# Altium footprint library pcblib_by_wjy.PcbLib: 111 footprints (part 2 of 7)
Each footprint in its own frame and in the unit in brackets; x right, y up, seen from the top. Pads: shape width x height; smd on the part's side, far side on the other; paste and mask are expansions set on the pad; w line width, h text height; cw(c..) or ccw(c..) is an arc to the next point about the centre after c.
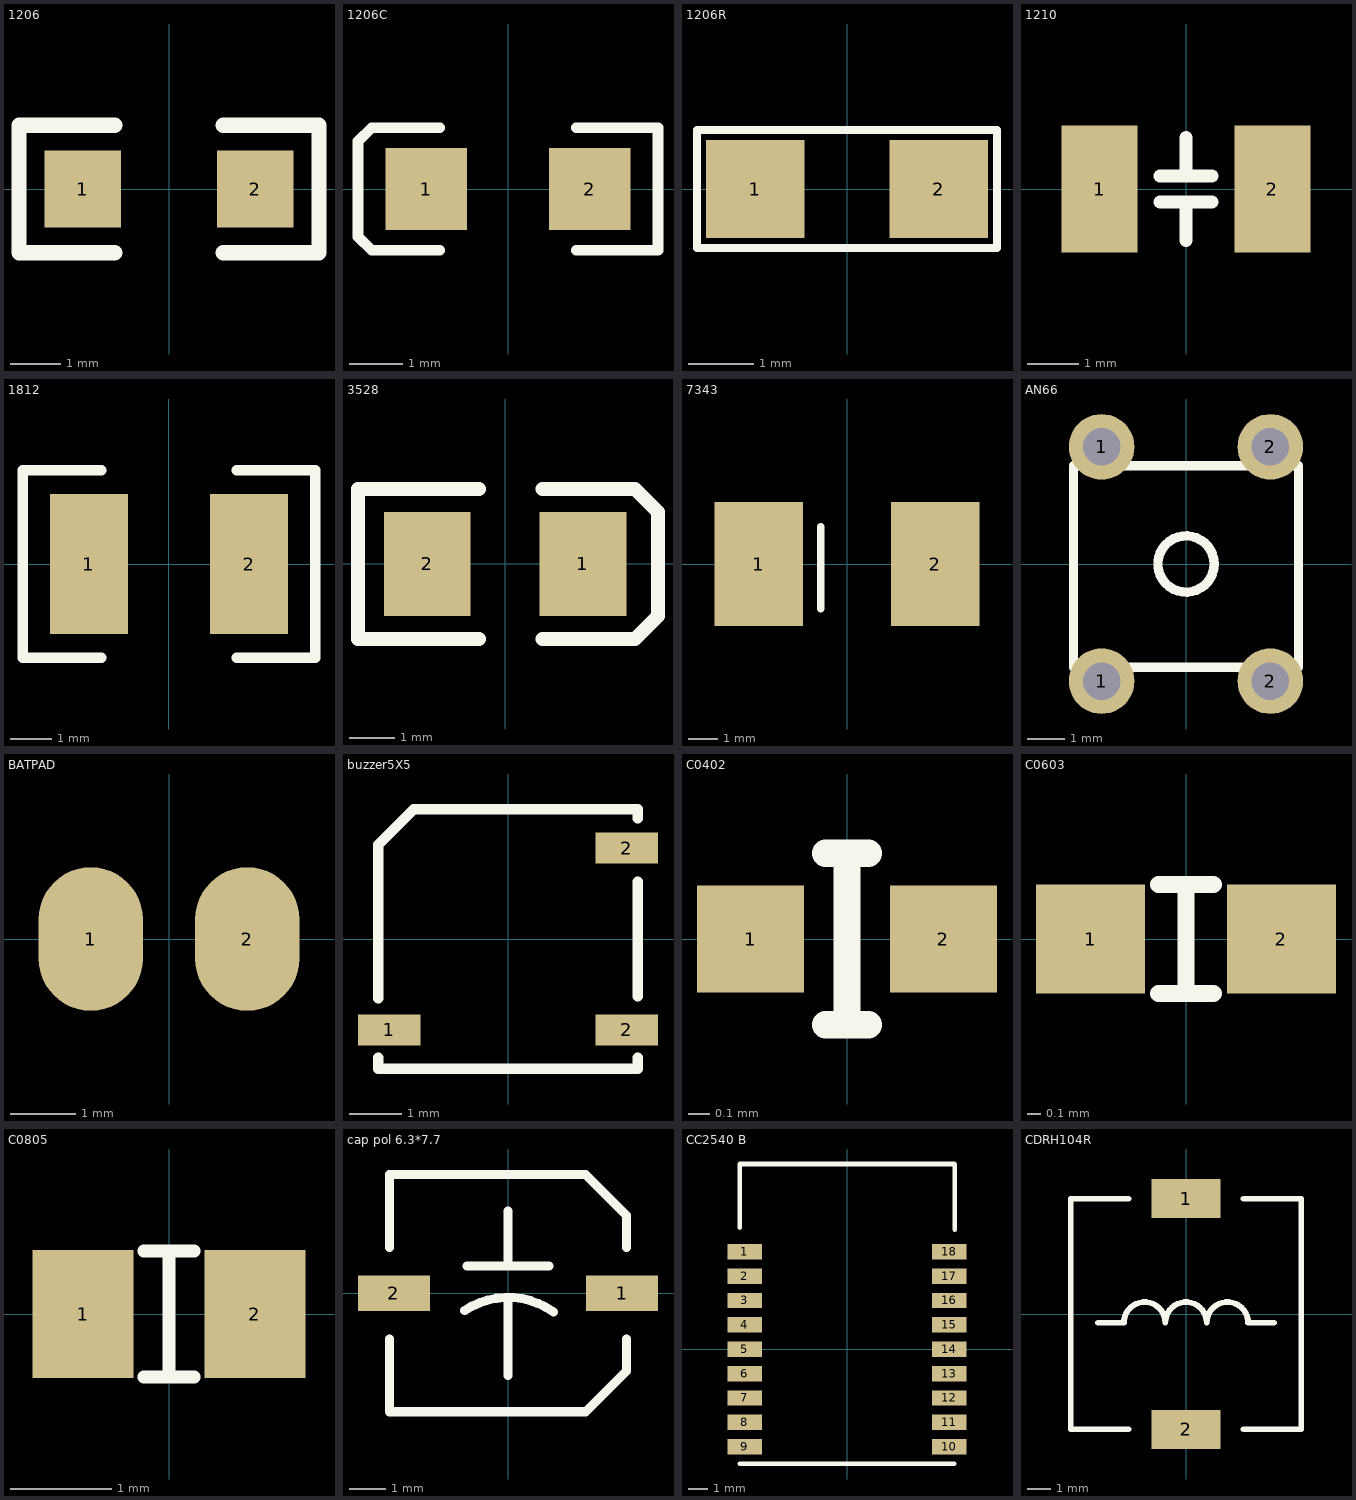
[diagram p1: the footprints below, top view; thin cyan lines are the x and y axes]

## 1206 [mil]
pads (2):
  rect 60x60 smd: 1(-67.5,0) 2(67.5,0)
Top Overlay:
  lines w12: -42.5,-50 -117.5,-50 -117.5,50 -42.5,50 ; 42.5,-50 117.5,-50 117.5,50 42.5,50

## 1206C [mil]
pads (2):
  rect 60x60 smd: 1(-60,0) 2(60,0)
Top Overlay:
  lines w7.87: -50,-45 -100,-45 -110,-35 -110,35 -100,45 -50,45 ; 50,-45 110,-45 110,45 50,45

## 1206R [mm]
pads (2):
  rect 1.5x1.5 smd: 1(-1.397,0) 2(1.397,0)
Top Overlay:
  lines w0.127: -2.286,-0.9 -2.286,0.9 2.286,0.9 2.286,-0.9 -2.286,-0.9
3D body "CAPC3216(1206).STEP": height 0.95, standoff 0, extent -1.716,-0.787 1.484,0.813

## 1210 [mm]
pads (2):
  rect 1.5x2.5 smd: 1(-1.7,0) 2(1.7,0)
Top Overlay:
  lines w0.254: -0.508,-0.254 0.508,-0.254 ; -0.508,0.254 0.508,0.254 ; 0,-1.016 0,-0.254 ; 0,0.254 0,1.016

## 1812 [mm] "Chip Capacitor; Body 4.5 x 3.2 mm (LxW typ)"
height 1.1
pads (2):
  rect 1.9x3.4 smd: 1(-1.95,0) 2(1.95,0)
Top Overlay:
  lines w0.254: -1.651,-2.286 -3.556,-2.286 -3.556,2.286 -1.651,2.286 ; 1.651,-2.286 3.556,-2.286 3.556,2.286 1.651,2.286

## 3528 [mil]
pads (2):
  rect 75x90 smd: 1(67.5,0) 2(-67.5,0)
Top Overlay:
  lines w12: -22.5,-65 -127.5,-65 -127.5,65 -22.5,65 ; 32.5,-65 112.5,-65 132.5,-45 132.5,45 112.5,65 32.5,65

## 7343 [mm]
pads (2):
  rect 3x4.2 smd: 1(-3,0) 2(3,0)
Top Overlay:
  lines w0.254: -0.889,-1.524 -0.889,1.27

## AN66 [mil]
pads (4):
  round 70 hole 40: 1(-90,-125) 1(-90,125) 2(90,-125) 2(90,125)
Top Overlay:
  circle w10: c0,0 r30
  lines w10: -120,-110 -120,105 120,105 120,-110 -120,-110

## BATPAD [mm]
pads (2):
  oval 1.6x2.2 smd: 1(-1.2,0) 2(1.2,0)

## buzzer5X5 [mm]
height 3
pads (3):
  rect 1.2x0.6 smd: 1(-2.286,-1.75) 2(2.286,-1.75) 2(2.286,1.75)
Top Overlay:
  lines w0.2: -2.5,-2.286 -2.5,-2.5 2.5,-2.5 2.5,-2.286 ; -2.5,-1.143 -2.5,1.818 -1.818,2.5 2.5,2.5 2.5,2.326 ; 2.5,-1.1 2.5,1.1

## C0402 [mm] "C0402"
pads (2):
  rect 0.5x0.5 smd: 1(-0.45,0) 2(0.45,0)
Top Overlay:
  lines w0.127: -0.1,-0.4 0.1,-0.4 ; -0.1,0.4 0.1,0.4 ; 0,-0.4 0,0.4
3D body "R0402.STEP": height 0.35, standoff 0, extent -0.5,-0.25 0.5,0.25

## C0603 [mm] "C0603"
pads (2):
  rect 0.8x0.8 smd: 1(-0.7,0) 2(0.7,0)
Top Overlay:
  lines w0.127: -0.2,-0.4 0.2,-0.4 ; -0.2,0.4 0.2,0.4 ; 0,-0.4 0,0.4
3D body "CAPC1608(0603).STEP": height 0.6, standoff 0, extent -0.75,-0.4 0.85,0.4

## C0805 [mm] "C0805"
pads (2):
  rect 1x1.27 smd: 1(-0.85,0) 2(0.85,0)
Top Overlay:
  lines w0.127: -0.25,-0.625 0.25,-0.625 ; -0.25,0.625 0.25,0.625 ; 0,-0.625 0,0.625

## cap pol 6.3*7.7 [mm]
pads (2):
  rect 2x1 smd: 1(3.175,0) 2(-3.175,0)
Top Overlay:
  lines w0.254: -3.3,-1.27 -3.3,-3.3 2.161,-3.3 3.3,-2.161 3.3,-1.27 ; -3.3,1.27 -3.3,3.3 2.161,3.3 3.3,2.161 3.3,1.27 ; -1.204,-0.48 cw(c0,-2.286) 1.261,-0.52 ; -1.143,0.762 1.143,0.762 ; 0,-2.286 0,-0.127 ; 0,0.762 0,2.286

## CC2540 B [mm]
pads (18):
  rect 1.8x0.8 smd: 1(-5.334,5.08) 2(-5.334,3.81) 3(-5.334,2.54) 4(-5.334,1.27) 5(-5.334,0) 6(-5.334,-1.27) 7(-5.334,-2.54) 8(-5.334,-3.81) 9(-5.334,-5.08) 10(5.334,-5.08) 11(5.334,-3.81) 12(5.334,-2.54) 13(5.334,-1.27) 14(5.334,0) 15(5.334,1.27) 16(5.334,2.54) 17(5.334,3.81) 18(5.334,5.08)
Top Overlay:
  lines w0.254: -5.588,-5.969 5.588,-5.969 ; -5.588,6.35 -5.588,9.652 5.588,9.652 5.612,9.628 5.612,6.223

## CDRH104R [mm]
pads (2):
  rect 3x1.7 smd: 1(0,5.004) 2(0,-5.004)
Top Overlay:
  lines w0.254: -3.81,-0.381 -2.694,-0.381 cw(c-1.796,-0.381) -0.898,-0.381 cw(c0,-0.381) 0.898,-0.381 cw(c1.796,-0.381) 2.694,-0.381 3.81,-0.381 ; -2.5,-5 -5,-5 -5,5 -2.5,5 ; 2.5,-5 5,-5 5,5 2.5,5